# EAGLE library part NDC7003P (library kamiki-sot23)
Fairchild NDC7003P Dual P Channel PowerTrench® MOSFET.
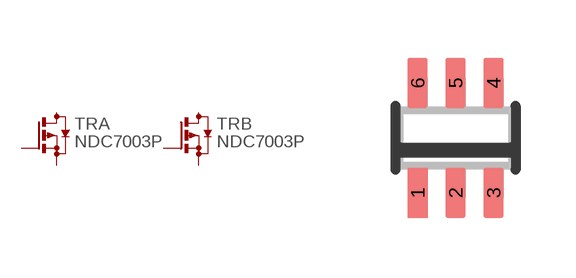
[diagram p0: symbol with the pads of SOT26; footprint SOT26]

Designator prefix TR; gates A=P-MOS B=P-MOS

## NDC7003P  [SOT26]
1  A:G  pas
2  B:S  pas
3  B:G  pas
4  B:D  pas
5  A:S  pas
6  A:D  pas

## Footprint SOT26 (pad centres in mm)
SOT23-6 (SOT-26) based on Fairchild SuperSOT-6. Package length 3mm, Package width 3mm, Body width 1.6mm, Lead width 0.37-0.50mm.
smd 0.5 x 1.25: 1 -0.95,-1.375; 2 0,-1.375; 3 0.95,-1.375; 4 0.95,1.375; 5 0,1.375; 6 -0.95,1.375